# Altium schematic symbol library SCH - OPAMP - 3PEAK LMV358B.SCHLIB: 1 symbol
Pins are listed as number, name and electrical type; pins without a type are passive.

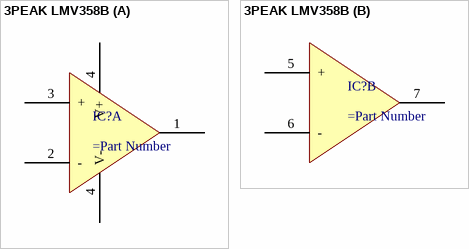
[diagram p0: symbol 3PEAK LMV358B]

## 3PEAK LMV358B
designator IC?
1MHz, 80μA, RRIO, Op Amps
part A pins: 1 OUT, 2 -, 3 +, 4 V+, 4 V-
part B pins: 5 +, 6 -, 7 OUT